# Altium footprint library DPAK.PcbLib: 1 footprints
Each footprint in its own frame and in the unit in brackets; x right, y up, seen from the top. Pads: shape width x height; smd on the part's side, far side on the other; paste and mask are expansions set on the pad; w line width, h text height; cw(c..) or ccw(c..) is an arc to the next point about the centre after c.
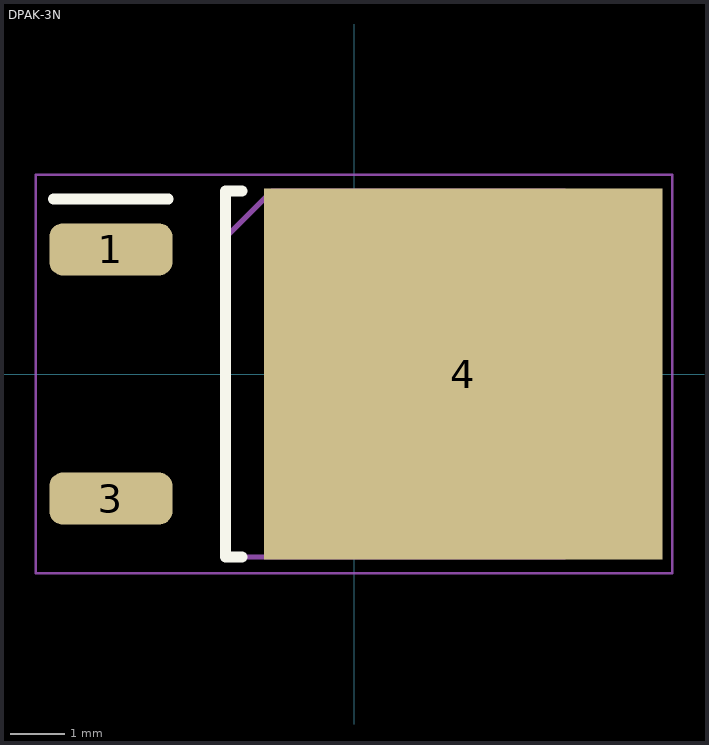
[diagram p0: the footprint, top view; thin cyan lines are the x and y axes]

## DPAK-3N [mm] "D-PAK, 3-Pads, Body 6.20x6.72mm (max), IPC Medium Density (TO-252, SC-63)"
height 2.38
pads (3):
  rrect50% 2.25x0.95 smd: 1(-4.45,2.28) 3(-4.45,-2.28)
  rect 7.3x6.8 smd paste-1000: 4(2,0)
Top Overlay:
  lines w0.2: -5.5,3.2 -3.4,3.2 ; -2.05,-3.35 -2.35,-3.35 -2.35,3.35 -2.05,3.35
Top Paste:
  rectangle: -1.6,0.2 1.8,3.4
  region: 5.6,3.4 2.2,3.4 2.2,0.2 5.6,0.2
  region: 5.6,-0.2 2.2,-0.2 2.2,-3.4 5.6,-3.4
  rectangle: -1.6,-3.4 1.8,-0.2
Assembly:
  lines w0.1: -2.35,-3.35 3.85,-3.35 3.85,3.35 -1.5,3.35 -2.35,2.5 -2.35,-3.35
Courtyard:
  lines w0.05: -5.825,-3.65 -5.825,3.65 5.825,3.65 5.825,-3.65 -5.825,-3.65
  lines w0.1: -0.5,0 0.5,0 ; 0,-0.5 0,0.5
3D body: height 2.44, standoff 0.03, extent -5.1,-3.27 4.838,3.27